# EAGLE library part 737-112 (library con-wago_737)
Serie 737, Dreistock-Klemmenleiste für Leiterplatten 3 Lötstifte in Reihe / Series 737, Triple-deck PCB terminal strip 3 solder pins, in line Polzahl / Pole No.: 12 Rastermaß / Pitch: 5 mm Bemessungsspannung / Rated Voltage: 320 V Nennstrom / Nominal Current: 21 A Leiterquerschnitt / Conductor Size: 0.08 - 2.5 mm² Anschlusstechnik / Connection Technology: CAGE CLAMP® Lötstiftlänge: / Solder Pin Length: 4 mm Leitereinführung (zur Platine) / Conductor entry angle (to PCB): 45 ° Farbe / Color: grau / gray Stand: 01.01.2012. Die jeweils aktuellen Daten zu diesem Artikel finden Sie in unserem Produktkatalog, den Sie unter www.wago.com einsehen können. As of: 01/01/2012. Please find the newest data for this article in our product catalogue, which can be viewed under www.wago.com.
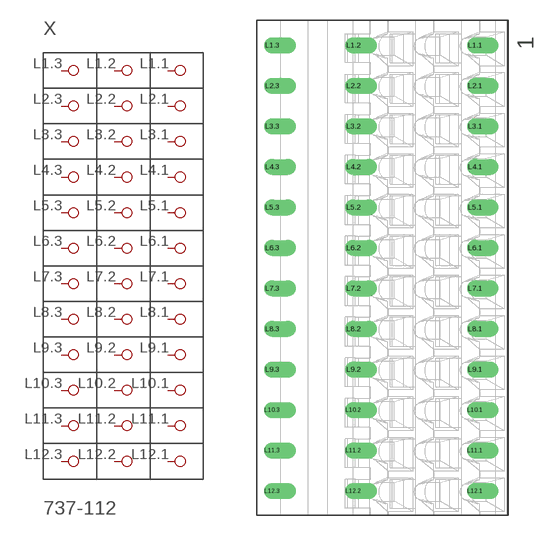
[diagram p5: symbol with the pads of P-737-112; footprint P-737-112]

Designator prefix X

## 737-112  [P-737-112]
L1.1  P1.1
L1.2  P1.2
L1.3  P1.3
L2.1  P2.1
L2.2  P2.2
L2.3  P2.3
L3.1  P3.1
L3.2  P3.2
L3.3  P3.3
L4.1  P4.1
L4.2  P4.2
L4.3  P4.3
L5.1  P5.1
L5.2  P5.2
L5.3  P5.3
L6.1  P6.1
L6.2  P6.2
L6.3  P6.3
L7.1  P7.1
L7.2  P7.2
L7.3  P7.3
L8.1  P8.1
L8.2  P8.2
L8.3  P8.3
L9.1  P9.1
L9.2  P9.2
L9.3  P9.3
L10.1  P10.1
L10.2  P10.2
L10.3  P10.3
L11.1  P11.1
L11.2  P11.2
L11.3  P11.3
L12.1  P12.1
L12.2  P12.2
L12.3  P12.3

## Footprint P-737-112 (pad centres in mm)
drill 1.3 offset: L1.1 11.4,27.45; L1.2 -3.6,27.45; L1.3 -13.6,27.45; L2.1 11.4,22.45; L2.2 -3.6,22.45; L2.3 -13.6,22.45; L3.1 11.4,17.45; L3.2 -3.6,17.45; L3.3 -13.6,17.45; L4.1 11.4,12.45; L4.2 -3.6,12.45; L4.3 -13.6,12.45; L5.1 11.4,7.45; L5.2 -3.6,7.45; L5.3 -13.6,7.45; L6.1 11.4,2.45; L6.2 -3.6,2.45; L6.3 -13.6,2.45; L7.1 11.4,-2.55; L7.2 -3.6,-2.55; L7.3 -13.6,-2.55; L8.1 11.4,-7.55; L8.2 -3.6,-7.55; L8.3 -13.6,-7.55; L9.1 11.4,-12.55; L9.2 -3.6,-12.55; L9.3 -13.6,-12.55; L10.1 11.4,-17.55; L10.2 -3.6,-17.55; L10.3 -13.6,-17.55; L11.1 11.4,-22.55; L11.2 -3.6,-22.55; L11.3 -13.6,-22.55; L12.1 11.4,-27.55; L12.2 -3.6,-27.55; L12.3 -13.6,-27.55